# Altium footprint library RESC3216X70N.PcbLib: 1 footprints
Each footprint in its own frame and in the unit in brackets; x right, y up, seen from the top. Pads: shape width x height; smd on the part's side, far side on the other; paste and mask are expansions set on the pad; w line width, h text height; cw(c..) or ccw(c..) is an arc to the next point about the centre after c.
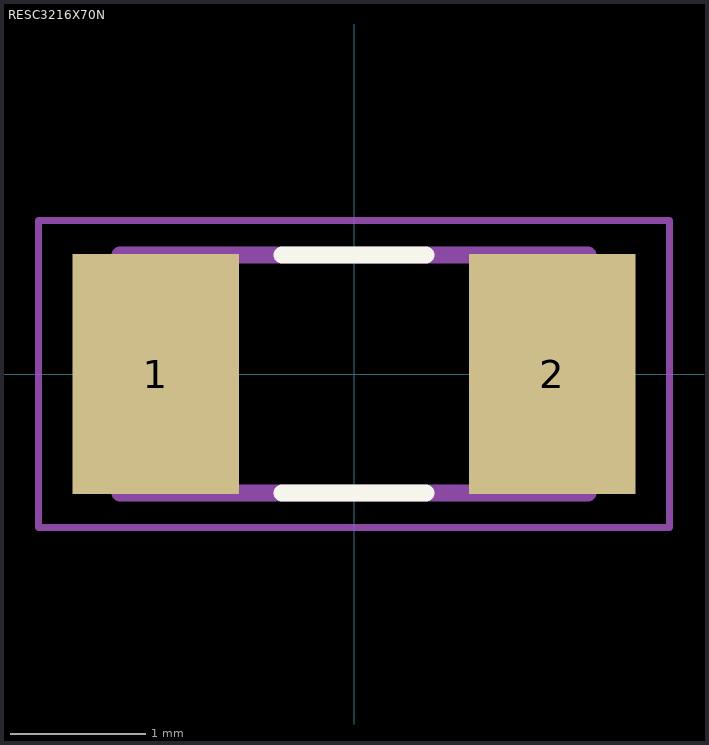
[diagram p0: the footprint, top view; thin cyan lines are the x and y axes]

## RESC3216X70N [mm]
pads (2):
  rect 1.23x1.77 smd: 1(-1.466,0) 2(1.466,0)
Top Overlay:
  lines w0.127: -0.53,-0.88 0.53,-0.88 ; -0.53,0.88 0.53,0.88
Mechanical 13:
  lines w0.127: -1.73,-0.88 1.73,-0.88 1.73,0.88 -1.73,0.88 -1.73,-0.88
Mechanical 15:
  lines w0.05: -2.331,-1.135 2.331,-1.135 2.331,1.135 -2.331,1.135 -2.331,-1.135
3D body "step_temp.STEP": height 0.7, standoff 0, extent -1.6,-0.8 1.6,0.8